# Altium schematic symbol library ElishaComponentsAltiumLibrary.SchLib: 5 symbols
Pins are listed as number, name and electrical type; pins without a type are passive.

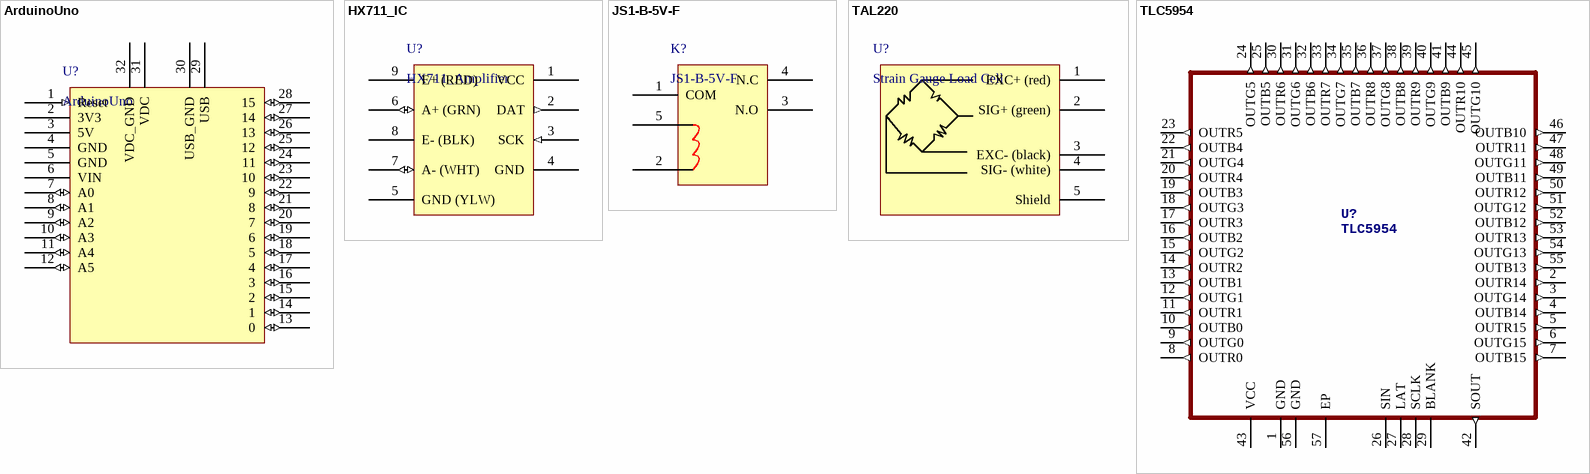
[diagram p0: symbols ArduinoUno to TLC5954]

## ArduinoUno
designator U?
Arduino Uno Development Board
pins: 1 Reset (in), 2 3V3 (power), 3 5V (power), 4 GND (power), 5 GND (power), 6 VIN (power), 7 A0 (io), 8 A1 (io), 9 A2 (io), 10 A3 (io), 11 A4 (io), 12 A5 (io), 13 0 (io), 14 1 (io), 15 2 (io), 16 3 (io), 17 4 (io), 18 5 (io), 19 6 (io), 20 7 (io), 21 8 (io), 22 9 (io), 23 10 (io), 24 11 (io), 25 12 (io), 26 13 (io), 27 14 (io), 28 15 (io), 29 USB (power), 30 USB_GND (power), 31 VDC (power), 32 VDC_GND (power)

## HX711_IC
designator U?, comment HX711_Amplifier
Load Cell Amplifier
pins: 1 VCC (power), 2 DAT (out), 3 SCK (in), 4 GND (power), 5 GND (YLW) (power), 6 A+ (GRN) (io), 7 A- (WHT) (io), 8 E- (BLK) (power), 9 E+ (RED) (power)

## JS1-B-5V-F
designator K?
SPDT Relay 10A250VAC 10A 125VAC 5V
pins: 1 COM (power), 2 (power), 3 N.O (power), 4 N.C (power), 5 (power)

## TAL220
designator U?, comment Strain Gauge Load Cell
Parallel Beam Load Cell
pins: 1 EXC+ (red) (power), 2 SIG+ (green) (power), 3 EXC- (black) (power), 4 SIG- (white) (power), 5 Shield

## TLC5954
designator U?
48-Channel, Constant-Current LED Driver with Global Brightness Control,  LED Open-Short Detection, and Power-Save Mode; Manufacturer_Name: Texas Instruments; Manufacturer_Part_Number: TLC5954; MPN: TLC5954
footprint TI-QFN56
pins: 1 GND, 2 OUTR14 (out), 3 OUTG14 (out), 4 OUTB14 (out), 5 OUTR15 (out), 6 OUTG15 (out), 7 OUTB15 (out), 8 OUTR0 (out), 9 OUTG0 (out), 10 OUTB0 (out), 11 OUTR1 (out), 12 OUTG1 (out), 13 OUTB1 (out), 14 OUTR2 (out), 15 OUTG2 (out), 16 OUTB2 (out), 17 OUTR3 (out), 18 OUTG3 (out), 19 OUTB3 (out), 20 OUTR4 (out), 21 OUTG4 (out), 22 OUTB4 (out), 23 OUTR5 (out), 24 OUTG5 (out), 25 OUTB5 (out), 26 SIN, 27 LAT, 28 SCLK, 29 BLANK, 30 OUTR6 (out), 31 OUTG6 (out), 32 OUTB6 (out), 33 OUTR7 (out), 34 OUTG7 (out), 35 OUTB7 (out), 36 OUTR8 (out), 37 OUTG8 (out), 38 OUTB8 (out), 39 OUTR9 (out), 40 OUTG9 (out), 41 OUTB9 (out), 42 SOUT (out), 43 VCC (power), 44 OUTR10 (out), 45 OUTG10 (out), 46 OUTB10 (out), 47 OUTR11 (out), 48 OUTG11 (out), 49 OUTB11 (out), 50 OUTR12 (out), 51 OUTG12 (out), 52 OUTB12 (out), 53 OUTR13 (out), 54 OUTG13 (out), 55 OUTB13 (out), 56 GND, 57 EP